# EAGLE library part 55917-0830 (library relay_computer_custom)
8 Pin - 2mm Dual Row Single Wafer, Vertical T/H HDR Source: http://www.molex.com/pdm_docs/sd/559170830_sd.pdf
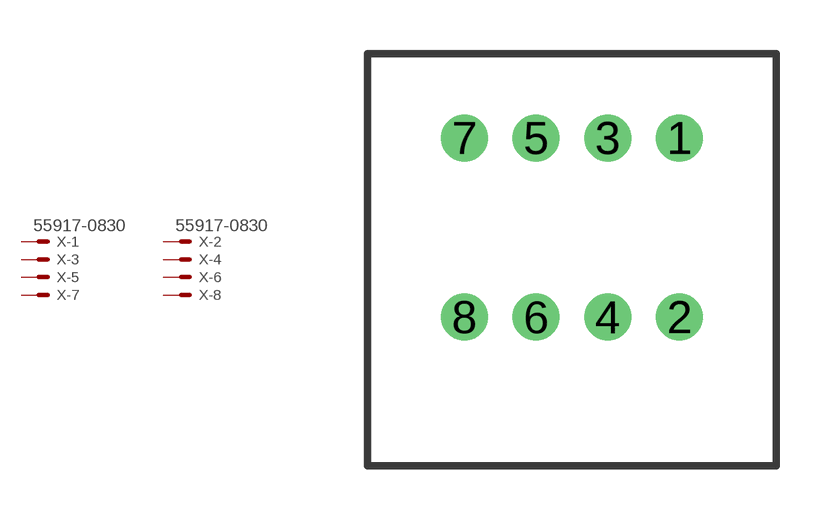
[diagram p2: symbol with the pads of 55917-0830; footprint 55917-0830]

Designator prefix X; gates -1=MV -2=MV -3=M -4=M -5=M -6=M -7=M -8=M

## 55917-0830  [55917-0830]
1  -1:S  pas
2  -2:S  pas
3  -3:S  pas
4  -4:S  pas
5  -5:S  pas
6  -6:S  pas
7  -7:S  pas
8  -8:S  pas

## Footprint 55917-0830 (pad centres in mm)
8 Pin - 2mm Dual Row Single Wafer, Vertical T/H HDR Source: http://www.molex.com/pdm_docs/sd/877580616_sd.pdf
drill 0.8: 1 3,2.5; 2 3,-2.5; 3 1,2.5; 4 1,-2.5; 5 -1,2.5; 6 -1,-2.5; 7 -3,2.5; 8 -3,-2.5